# Altium footprint library CAPPR5-12.PcbLib: 1 footprints
Each footprint in its own frame and in the unit in brackets; x right, y up, seen from the top. Pads: shape width x height; smd on the part's side, far side on the other; paste and mask are expansions set on the pad; w line width, h text height; cw(c..) or ccw(c..) is an arc to the next point about the centre after c.
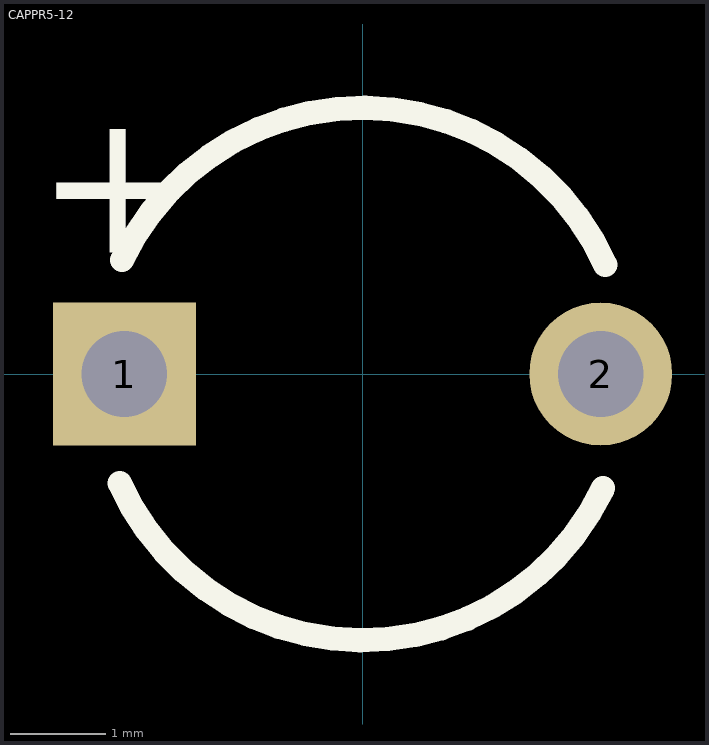
[diagram p0: the footprint, top view; thin cyan lines are the x and y axes]

## CAPPR5-12 [mm]
pads (2):
  rect 1.5x1.5 hole 0.9: 1(-2.5,0)
  round 1.5 hole 0.9: 2(2.5,0)
Top Overlay:
  lines w0.254: -2.548,-1.147 ccw(c0,0) 2.525,-1.196 ; -2.525,1.196 cw(c0,0) 2.548,1.147
  text "+" at -3.429,1.27 h1.5
3D body: height 14.75, standoff -1.85, extent -2.79,-2.49 2.79,2.589